# Altium footprint library TL081.PcbLib: 3 footprints
Each footprint in its own frame and in the unit in brackets; x right, y up, seen from the top. Pads: shape width x height; smd on the part's side, far side on the other; paste and mask are expansions set on the pad; w line width, h text height; cw(c..) or ccw(c..) is an arc to the next point about the centre after c.
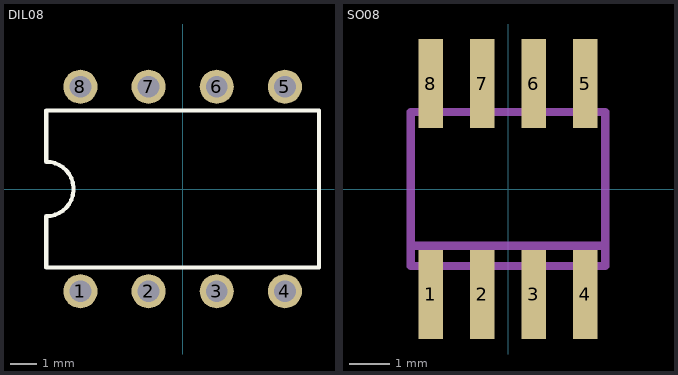
[diagram p0: the footprints below, top view; thin cyan lines are the x and y axes]

## DIL08 [mil]
pads (8):
  round 50 hole 32: 1(-150,-150) 2(-50,-150) 3(50,-150) 4(150,-150) 5(150,150) 6(50,150) 7(-50,150) 8(-150,150)
Top Overlay:
  lines w6: -200,-115 -200,-40 ccw(c-200,0) -200,40 -200,115 200,115 200,-115 -200,-115

## PCBComponent_1 [mil]

## SO08 [mm]
pads (8):
  rect 0.6x2.2 smd: 1(-1.905,-2.6) 2(-0.635,-2.6) 3(0.635,-2.6) 4(1.905,-2.6) 5(1.905,2.6) 6(0.635,2.6) 7(-0.635,2.6) 8(-1.905,2.6)
Mechanical 4:
  region: -2.15,3.1 -1.66,3.1 -1.66,2 -2.15,2
  region: -0.88,3.1 -0.39,3.1 -0.39,2 -0.88,2
  region: 0.39,3.1 0.88,3.1 0.88,2 0.39,2
  region: 1.66,3.1 2.15,3.1 2.15,2 1.66,2
  region: 1.66,-2 2.15,-2 2.15,-3.1 1.66,-3.1
  region: 0.39,-2 0.88,-2 0.88,-3.1 0.39,-3.1
  region: -0.88,-2 -0.39,-2 -0.39,-3.1 -0.88,-3.1
  region: -2.15,-2 -1.66,-2 -1.66,-3.1 -2.15,-3.1
  region: -2.15,3.1 -1.66,3.1 -1.66,2 -2.15,2
  region: -0.88,3.1 -0.39,3.1 -0.39,2 -0.88,2
  region: 0.39,3.1 0.88,3.1 0.88,2 0.39,2
  region: 1.66,3.1 2.15,3.1 2.15,2 1.66,2
  region: 1.66,-2 2.15,-2 2.15,-3.1 1.66,-3.1
  region: 0.39,-2 0.88,-2 0.88,-3.1 0.39,-3.1
  region: -0.88,-2 -0.39,-2 -0.39,-3.1 -0.88,-3.1
  region: -2.15,-2 -1.66,-2 -1.66,-3.1 -2.15,-3.1
  lines w0.203: -2.4,-1.9 -2.4,-1.4 ; -2.4,-1.9 2.4,-1.9 ; -2.4,-1.9 -2.4,-1.4 ; -2.4,-1.9 2.4,-1.9 ; -2.4,-1.4 2.4,-1.4 ; -2.4,-1.4 -2.4,1.9 ; -2.4,-1.4 2.4,-1.4 ; -2.4,-1.4 -2.4,1.9 ; -2.4,1.9 2.4,1.9 ; -2.4,1.9 2.4,1.9 ; 2.4,-1.9 2.4,-1.4 ; 2.4,-1.9 2.4,-1.4 ; 2.4,-1.4 2.4,1.9 ; 2.4,-1.4 2.4,1.9